# EAGLE library part HA4061-AL (library Xenon)
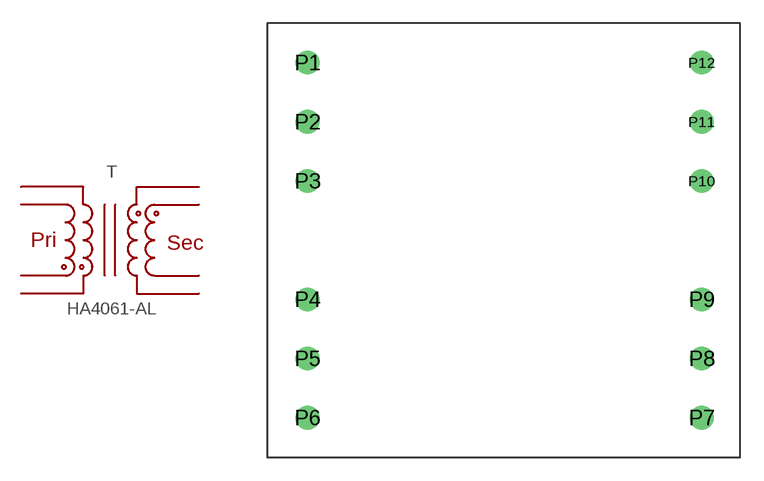
[diagram p2: symbol with the pads of HA4061-AL; footprint HA4061-AL]

Designator prefix T

## HA4061-AL  [HA4061-AL]
P1  P1
P2  P2
P5  P5
P6  P6
P7  P7
P8  P8
P11  P11
P12  P12

## Footprint HA4061-AL (pad centres in mm)
drill 1.016: P1 -12.7,11.43; P2 -12.7,7.62; P3 -12.7,3.81; P4 -12.7,-3.81; P5 -12.7,-7.62; P6 -12.7,-11.43; P7 12.7,-11.43; P8 12.7,-7.62; P9 12.7,-3.81; P10 12.7,3.81; P11 12.7,7.62; P12 12.7,11.43